# Altium footprint library myLib.PcbLib: 111 footprints (part 2 of 7)
Each footprint in its own frame and in the unit in brackets; x right, y up, seen from the top. Pads: shape width x height; smd on the part's side, far side on the other; paste and mask are expansions set on the pad; w line width, h text height; cw(c..) or ccw(c..) is an arc to the next point about the centre after c.
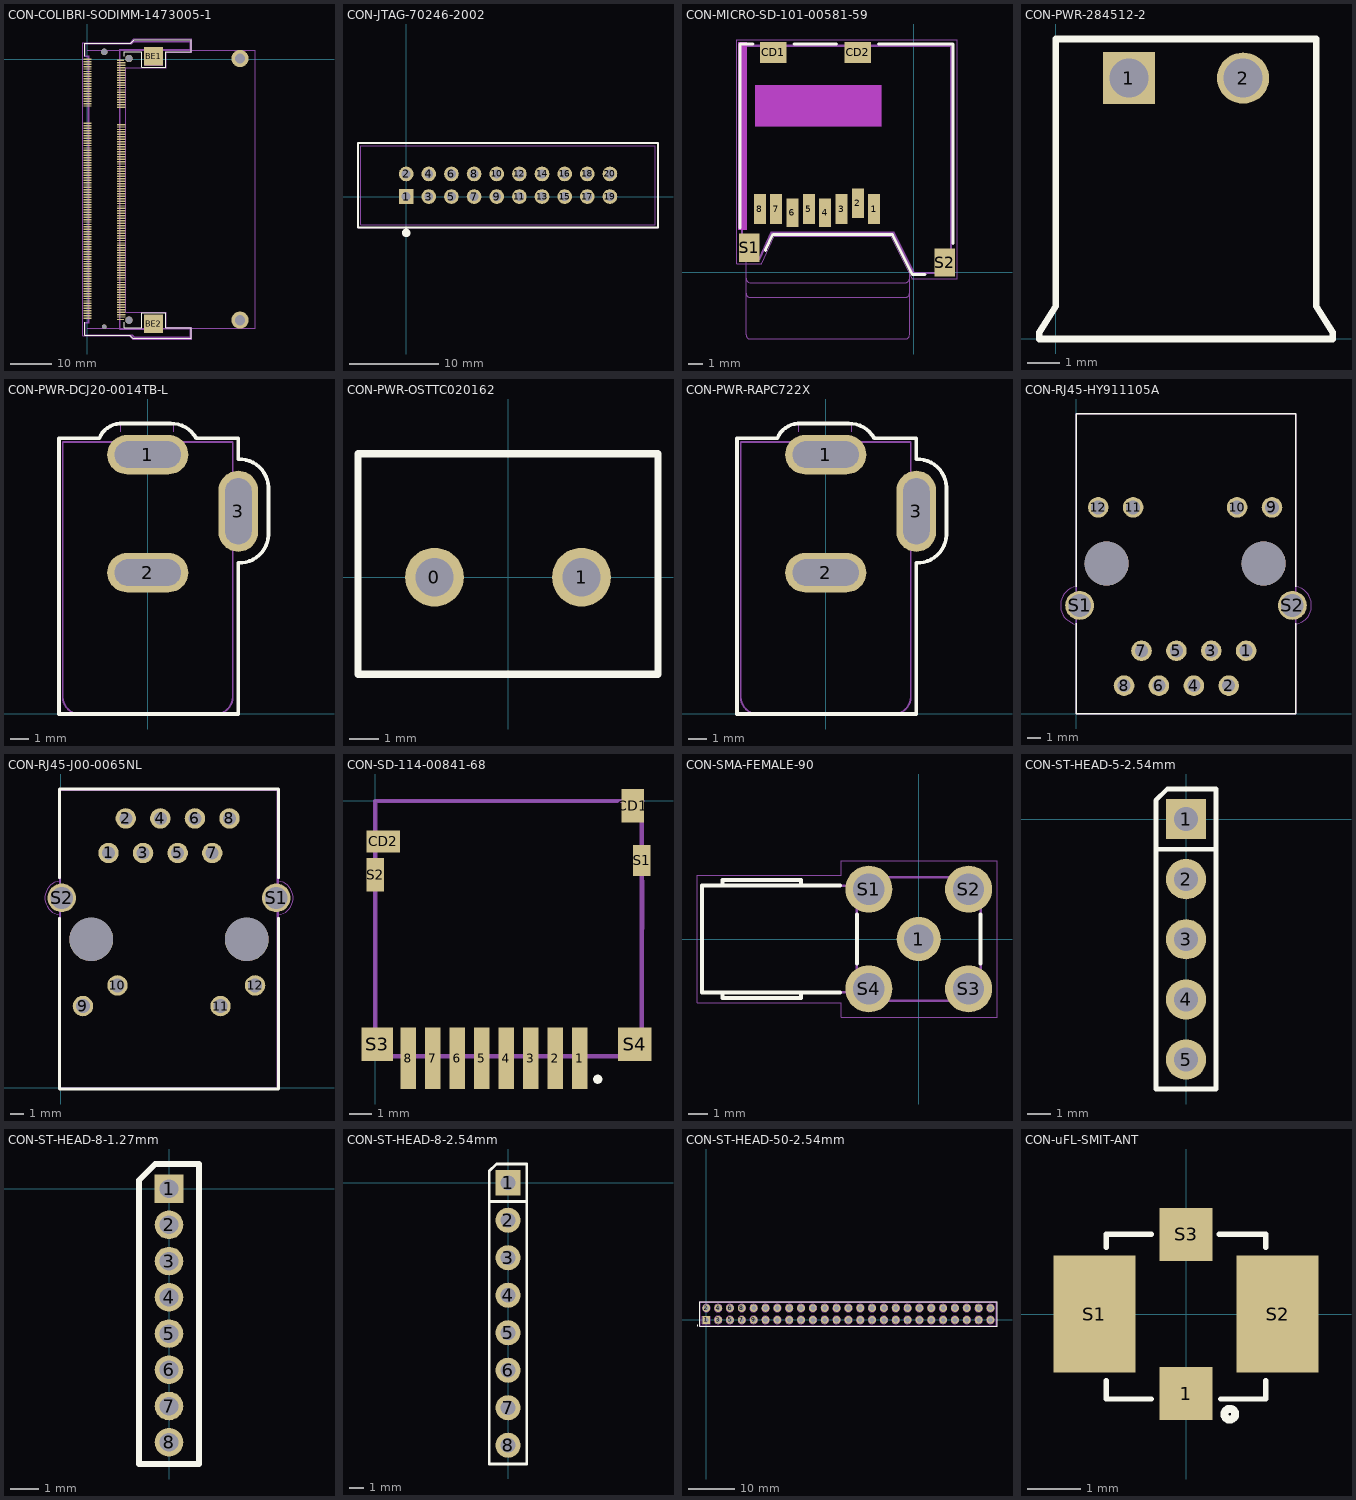
[diagram p1: the footprints below, top view; thin cyan lines are the x and y axes]

## CON-COLIBRI-SODIMM-1473005-1 [mm] "SODIMM Connector, 200 Pin (1473005-1)"
height 5.2
pads (208):
  rect 2x0.35 smd: 1(0,0) 3(0,-0.6) 4(8.2,-0.9) 5(0,-1.2) 6(8.2,-1.5) 7(0,-1.8) 8(8.2,-2.1) 9(0,-2.4) 10(8.2,-2.7) 11(0,-3) 12(8.2,-3.3) 13(0,-3.6) 14(8.2,-3.9) 15(0,-4.2) 16(8.2,-4.5) 17(0,-4.8) 18(8.2,-5.1) 19(0,-5.4) 20(8.2,-5.7) 21(0,-6) 22(8.2,-6.3) 23(0,-6.6) 24(8.2,-6.9) 25(0,-7.2) 26(8.2,-7.5) 27(0,-7.8) 28(8.2,-8.1) 29(0,-8.4) 30(8.2,-8.7) 31(0,-9) 32(8.2,-9.3) 33(0,-9.6) 34(8.2,-9.9) 35(0,-10.2) 36(8.2,-10.5) 37(0,-10.8) 38(8.2,-11.1) 39(0,-11.4) 40(8.2,-11.7) 41(0,-15.6) 42(8.2,-15.9) 43(0,-16.2) 44(8.2,-16.5) 45(0,-16.8) 46(8.2,-17.1) 47(0,-17.4) 48(8.2,-17.7) 49(0,-18) 50(8.2,-18.3) 51(0,-18.6) 52(8.2,-18.9) 53(0,-19.2) 54(8.2,-19.5) 55(0,-19.8) 56(8.2,-20.1) 57(0,-20.4) 58(8.2,-20.7) 59(0,-21) 60(8.2,-21.3) 61(0,-21.6) 62(8.2,-21.9) 63(0,-22.2) 64(8.2,-22.5) 65(0,-22.8) 66(8.2,-23.1) 67(0,-23.4) 68(8.2,-23.7) 69(0,-24) 70(8.2,-24.3) 71(0,-24.6) 72(8.2,-24.9) 73(0,-25.2) 74(8.2,-25.5) 75(0,-25.8) 76(8.2,-26.1) 77(0,-26.4) 78(8.2,-26.7) 79(0,-27) 80(8.2,-27.3) 81(0,-27.6) 82(8.2,-27.9) 83(0,-28.2) 84(8.2,-28.5) 85(0,-28.8) 86(8.2,-29.1) 87(0,-29.4) 88(8.2,-29.7) 89(0,-30) 90(8.2,-30.3) 91(0,-30.6) 92(8.2,-30.9) 93(0,-31.2) 94(8.2,-31.5) 95(0,-31.8) 96(8.2,-32.1) 97(0,-32.4) 98(8.2,-32.7) 99(0,-33) 100(8.2,-33.3) 101(0,-33.6) 102(8.2,-33.9) 103(0,-34.2) 104(8.2,-34.5) 105(0,-34.8) 106(8.2,-35.1) 107(0,-35.4) 108(8.2,-35.7) 109(0,-36) 110(8.2,-36.3) 111(0,-36.6) 112(8.2,-36.9) 113(0,-37.2) 114(8.2,-37.5) 115(0,-37.8) 116(8.2,-38.1) 117(0,-38.4) 118(8.2,-38.7) 119(0,-39) 120(8.2,-39.3) 121(0,-39.6) 122(8.2,-39.9) 123(0,-40.2) 124(8.2,-40.5) 125(0,-40.8) 126(8.2,-41.1) 127(0,-41.4) 128(8.2,-41.7) 129(0,-42) 130(8.2,-42.3) 131(0,-42.6) 132(8.2,-42.9) 133(0,-43.2) 134(8.2,-43.5) 135(0,-43.8) 136(8.2,-44.1) 137(0,-44.4) 138(8.2,-44.7) 139(0,-45) 140(8.2,-45.3) 141(0,-45.6) 142(8.2,-45.9) 143(0,-46.2) 144(8.2,-46.5) 145(0,-46.8) 146(8.2,-47.1) 147(0,-47.4) 148(8.2,-47.7) 149(0,-48) 150(8.2,-48.3) 151(0,-48.6) 152(8.2,-48.9) 153(0,-49.2) 154(8.2,-49.5) 155(0,-49.8) 156(8.2,-50.1) 157(0,-50.4) 158(8.2,-50.7) 159(0,-51) 160(8.2,-51.3) 161(0,-51.6) 162(8.2,-51.9) 163(0,-52.2) 164(8.2,-52.5) 165(0,-52.8) 166(8.2,-53.1) 167(0,-53.4) 168(8.2,-53.7) 169(0,-54) 170(8.2,-54.3) 171(0,-54.6) 172(8.2,-54.9) 173(0,-55.2) 174(8.2,-55.5) 175(0,-55.8) 176(8.2,-56.1) 177(0,-56.4) 178(8.2,-56.7) 179(0,-57) 180(8.2,-57.3) 181(0,-57.6) 182(8.2,-57.9) 183(0,-58.2) 184(8.2,-58.5) 185(0,-58.8) 186(8.2,-59.1) 187(0,-59.4) 188(8.2,-59.7) 189(0,-60) 190(8.2,-60.3) 191(0,-60.6) 192(8.2,-60.9) 193(0,-61.2) 194(8.2,-61.5) 195(0,-61.8) 196(8.2,-62.1) 197(0,-62.4) 198(8.2,-62.7) 199(0,-63)
  rect 1.7x0.35 smd: 2(8.05,-0.3) 200(8.05,-63.3)
  rect 4.6x4.5 smd: BE1(16.1,0.75) BE2(16.1,-64.35)
  round 1.1 hole 1.1 unplated: ""(4.1,-65.05)
  round 1.6 hole 1.6 unplated: ""(4.1,1.75)
  round 1.8 hole 1.8 unplated: ""(10.1,-63.45) ""(10.1,0.15)
  round 4.2 hole 2.5: ""(37.1,-63.45) ""(37.1,0.15)
Top Overlay:
  lines w0.2: -0.635,-63.962 -0.635,-67.1 7,-67.1 ; -0.635,0.715 -0.635,3.881 6.969,3.881 6.97,3.88 10.48,3.88 11.35,4.75 25.273,4.75 25.273,1.85 19.05,1.85 19.05,-1.951 13.2,-1.951 13.2,1.75 8.9,1.75 8.9,0.715 ; 6.95,-67.1 10.25,-67.1 11.05,-67.9 25.273,-67.9 25.273,-65.35 ; 8.9,-65.3 13.208,-65.3 13.208,-61.641 19.05,-61.641 19.05,-65.35 25.2,-65.35 ; 8.9,-65.282 8.9,-63.962
Drawing:
  lines w0.05: -1.141,-67.249 10.189,-67.249 10.983,-68.043 11.251,-68.043 25.413,-68.043 25.413,-65.211 19.191,-65.211 19.191,-61.502 9.374,-61.502 9.374,-2.1 19.2,-2.1 19.2,1.705 25.42,1.705 25.42,4.897 11.289,4.897 10.42,4.028 -1.141,4.028 -1.141,-67.249
3D:
  lines w0.001: -0.002,-65.45 40.798,-65.45 ; 0,2.15 40.8,2.15 40.8,-65.45 ; -0.635,-67.102 6.223,-67.102 10.795,-67.102 11.303,-67.61 25.146,-67.61 25.146,-65.451 18.288,-65.451 18.288,-62.276 13.97,-62.276 13.97,-65.451 8.001,-65.451 8.001,2.24 13.97,2.24 13.97,-1.443 18.288,-1.443 18.288,2.24 25.146,2.24 25.146,4.399 11.303,4.399 10.795,3.891 6.223,3.891 -0.635,3.891 -0.635,0.716 0.254,0.716 0.254,-63.962 -0.635,-63.962 -0.635,-67.102
Mechanical:
  lines w0.1: -0.508,-66.975 5.969,-66.975 10.922,-66.975 11.43,-67.483 25.019,-67.483 25.019,-65.578 18.161,-65.578 18.161,-62.403 14.097,-62.403 14.097,-65.705 7.874,-65.705 7.874,2.367 14.097,2.367 14.097,-1.189 18.161,-1.189 18.161,2.367 25.019,2.367 25.019,4.272 11.303,4.272 10.795,3.764 5.969,3.764 -0.508,3.764 -0.508,0.843 0.381,0.843 0.381,-64.054 -0.508,-64.054 -0.508,-66.975
3D body "20150202-230345-39902436.stp": height 3, standoff -0.48, extent 35.51,-65.28 38.69,-61.62
3D body "20150202-230345-39902436.stp": height 3, standoff -0.48, extent 35.51,-1.68 38.69,1.98
3D body "c-1473005-1-j1-3d.stp": height 5.22, standoff -0.68, extent -0.9,-67.4 25.15,4.1

## CON-JTAG-70246-2002 [mm] "Header shrouded, 2x10 Pins, 2.54 mm pitch"
height 8.51
pads (20):
  rect 1.65x1.65 hole 1: 1(0,0)
  round 1.65 hole 1: 2(0,2.54) 3(2.54,0) 4(2.54,2.54) 5(5.08,0) 6(5.08,2.54) 7(7.62,0) 8(7.62,2.54) 9(10.16,0) 10(10.16,2.54) 11(12.7,0) 12(12.7,2.54) 13(15.24,0) 14(15.24,2.54) 15(17.78,0) 16(17.78,2.54) 17(20.32,0) 18(20.32,2.54) 19(22.86,0) 20(22.86,2.54)
Top Overlay:
  circle w0.5: c0,-4.075 r0.224
  lines w0.2: -5.4,-3.475 -5.4,6 28.25,6 28.25,-3.475 -5.4,-3.475
Drawing:
  lines w0.05: -5.4,-3.475 28.25,-3.475 28.25,6 -5.4,6 -5.4,-3.475
3D:
  lines w0.01: -5.08,-3.175 27.94,-3.175 27.94,5.715 -5.08,5.715 -5.08,-3.175
Mechanical:
  lines w0.1: -5.08,-3.175 27.94,-3.175 27.94,5.715 -5.08,5.715 -5.08,-3.175
3D body "702462002.stp": height 9.29, standoff -3.41, extent -5.08,-3.175 27.94,5.715

## CON-MICRO-SD-101-00581-59 [mm] "MicroSD Holder top-loading type (Ampenol 101-00581-59)"
height 1.8
pads (12):
  rect 0.8x2 smd: 1(-2.67,4.25) 2(-3.77,4.65) 3(-4.87,4.25) 5(-7.07,4.25) 7(-9.27,4.25) 8(-10.37,4.25)
  rect 0.8x1.9 smd: 4(-5.97,4) 6(-8.17,4)
  rect 1.8x1.4 smd: CD1(-9.47,14.8) CD2(-3.77,14.8)
  rect 1.4x1.9 smd: S1(-11.08,1.65) S2(2.08,0.65)
Top Overlay:
  lines w0.2: -11.697,2.96 -11.697,15.366 -10.839,15.366 ; -9.998,1.461 -9.496,2.549 -1.448,2.549 -0.105,-0.167 0.753,-0.167 ; -8.055,15.366 -5.197,15.366 ; -2.39,15.366 2.636,15.366 2.636,1.928
Drawing:
  lines w0.05: -11.916,0.564 -11.916,15.636 2.916,15.636 2.916,-0.436 -0.135,-0.436 -1.54,2.407 -9.403,2.407 -10.253,0.564 -11.916,0.564
Drawing keep-out:
  rectangle: -11.83,2.854 -11.23,15.5
  rectangle: -10.68,9.8 -2.18,12.6
3D:
  lines w0.001: -11.29,-1.425 ccw(c-11.015,-1.425) -11.015,-1.7 -0.565,-1.7 ccw(c-0.565,-1.425) -0.29,-1.425 ; -11.29,-0.428 -11.29,-4.225 ccw(c-11.015,-4.225) -11.015,-4.5 -0.565,-4.5 ccw(c-0.565,-4.225) -0.29,-4.225 -0.29,-0.425 ; -11.29,0.95 -11.29,-0.425 ccw(c-11.015,-0.425) -11.015,-0.7 -0.565,-0.7 ccw(c-0.565,-0.425) -0.29,-0.425 ; -0.29,0.586 -0.29,-0.425 ; -11.53,0.95 -10.424,0.95 -9.608,2.721 -1.346,2.721 0,0 2.47,0 2.47,15.2 -11.53,15.2 -11.53,0.95
Mechanical:
  lines w0.1: -10.38,0.876 -11.596,0.876 -11.596,15.266 2.529,15.266 ; -10.379,0.878 -9.563,2.649 ; -9.56,2.649 -1.384,2.649 ; -1.383,2.649 -0.041,-0.066 ; -0.038,-0.068 2.538,-0.068 ; 2.535,-0.045 2.535,15.265 2.529,15.265 ; 2.529,15.265 2.529,15.266
3D body: height 1.72, standoff 0, extent -11.53,0 2.47,15.2

## CON-PWR-284512-2 [mm] "Power Connector ,3.5mm (TYCO S284512-2)"
height 7.3
pads (2):
  rect 1.6x1.6 hole 1.2: 1(2.25,8)
  oval 1.6x1.56 hole 1.2: 2(5.75,8)
Top Overlay:
  lines w0.2: -0.5,0 -0.5,0.2 0,1 0,9.2 8,9.2 8,1 8.5,0.2 8.5,0 -0.499,0
Drawing:
  lines w0.05: -0.5,0 -0.5,0.2 0,1 0,9.2 8,9.2 8,1 8.5,0.2 8.5,0 -0.5,0
3D:
  lines w0.001: -0.5,0 -0.5,0.2 0,1 0,9.2 8,9.2 8,1 8.5,0.2 8.5,0 -0.5,0
Mechanical:
  lines w0.1: -0.5,0 -0.5,0.2 0,1 0,9.2 8,9.2 8,1 8.5,0.2 8.5,0 -0.5,0
3D body "c-284512-2-e1-3d.stp": height 7.27, standoff -3.38, extent -0.5,0 8.5,9.2

## CON-PWR-DCJ20-0014TB-L [mm] "Connector, 2mm (Dia), 6.4mm(Dia), Round Power Socket (DCJ20-0014TB-L)"
height 10.7
pads (3):
  oval 4.3x2.1 hole 1.4 slot 3.5 at 0 deg: 1(0,13.74) 2(0,7.49)
  oval 2.1x4.3 hole 1.4 slot 3.5 at 90 deg: 3(4.8,10.74)
Top Overlay:
  lines w0.2: 1.196,15.393 -1.3,15.393 ccw(c-1.385,14.115) -2.569,14.6 -4.7,14.6 -4.7,0 4.79,0 4.79,8 ccw(c4.843,9.553) 6.396,9.499 6.396,11.996 ccw(c4.841,11.945) 4.79,13.5 4.79,14.59 4.78,14.6 2.569,14.6 ccw(c1.234,13.866) 1.2,15.388
Drawing:
  lines w0.05: -1.332,15.393 1.164,15.393 ; -1.332,15.394 ccw(c-1.384,14.115) -2.568,14.6 -4.7,14.6 -4.7,0 4.8,0 4.8,8 ccw(c4.843,9.553) 6.396,9.499 6.396,11.996 ccw(c4.841,11.945) 4.8,13.5 4.8,14.6 2.568,14.6 ; 1.169,15.388 cw(c1.203,13.866) 2.537,14.6
3D:
  lines w0.001: -1.432,14.95 -1.432,15.4 ; -1.4,13.95 -1.4,14.4 -4.5,14.4 -4.5,0.9 ccw(c-3.6,0.9) -3.6,0 3.6,0 ; 1.368,14.95 1.368,15.4 ; 1.4,13.95 1.4,14.4 4.5,14.4 4.5,0.9 cw(c3.6,0.9) 3.6,0
Mechanical:
  lines w0.1: -4.5,0.9 ccw(c-3.6,0.9) -3.6,0 3.6,0 ccw(c3.6,0.9) 4.5,0.9 4.5,14.4 -4.5,14.4 -4.5,0.9
3D body: height 10.7, standoff 0, extent -4.5,0 4.5,14.4
3D body: height 4, standoff -3.7, extent 4.5,9.45 4.7,11.85
3D body: height 4, standoff -3.7, extent -1.2,7.55 1.2,7.75
3D body: height 4, standoff -3.7, extent -1.4,13.55 1.4,13.75
3D body: height 9.59, standoff 3.21, extent -3.2,0 3.175,2
3D body: height 7.4, standoff 5.4, extent -1,0 0.992,2

## CON-PWR-OSTTC020162 [mm] "Terminal Connector, TH, 5mm Pitch (OnShore OSTTC020162)"
height 7
pads (2):
  round 2 hole 1.3: 0(-2.5,0) 1(2.5,0)
Top Overlay:
  lines w0.254: -5.1,-3.3 5.1,-3.3 5.1,0 5.1,4.2 -5.1,4.2 -5.1,0 -5.1,-3.3
Drawing:
  lines w0.1: -5.1,-3.3 5.1,-3.3 5.1,4.2 -5.1,4.2 -5.1,-3.3
Mechanical:
  lines w0.2: -5.1,-3.3 5.1,-3.3 5.1,4.2 -5.1,4.2 -5.1,-3.3
3D body "terminal_blocks_a-tb500-t302.stp": height 10, standoff -4, extent -5.55,-3.4 5.55,4.2

## CON-PWR-RAPC722X [mm] "Connector, 2.1mm (Dia), 5.5mm(Dia), Round Power Socket (RAPC722X)"
height 10.7
pads (3):
  oval 4.3x2.1 hole 1.4 slot 3.5 at 0 deg: 1(0,13.74) 2(0,7.49)
  oval 2.1x4.3 hole 1.4 slot 3.5 at 90 deg: 3(4.8,10.74)
Top Overlay:
  lines w0.2: 1.196,15.393 -1.3,15.393 ccw(c-1.385,14.115) -2.569,14.6 -4.7,14.6 -4.7,0 4.79,0 4.79,8 ccw(c4.843,9.553) 6.396,9.499 6.396,11.996 ccw(c4.841,11.945) 4.79,13.5 4.79,14.59 4.78,14.6 2.569,14.6 ccw(c1.234,13.866) 1.2,15.388
Drawing:
  lines w0.05: -1.332,15.393 1.164,15.393 ; -1.332,15.394 ccw(c-1.384,14.115) -2.568,14.6 -4.7,14.6 -4.7,0 4.8,0 4.8,8 ccw(c4.843,9.553) 6.396,9.499 6.396,11.996 ccw(c4.841,11.945) 4.8,13.5 4.8,14.6 2.568,14.6 ; 1.169,15.388 cw(c1.203,13.866) 2.537,14.6
3D:
  lines w0.001: -1.432,14.95 -1.432,15.4 ; -1.4,13.95 -1.4,14.4 -4.5,14.4 -4.5,0.9 ccw(c-3.6,0.9) -3.6,0 3.6,0 ; 1.368,14.95 1.368,15.4 ; 1.4,13.95 1.4,14.4 4.5,14.4 4.5,0.9 cw(c3.6,0.9) 3.6,0
Mechanical:
  lines w0.1: -4.5,0.9 ccw(c-3.6,0.9) -3.6,0 3.6,0 ccw(c3.6,0.9) 4.5,0.9 4.5,14.4 -4.5,14.4 -4.5,0.9
3D body: height 10.7, standoff 0, extent -4.5,0 4.5,14.4
3D body: height 4, standoff -3.7, extent 4.5,9.45 4.7,11.85
3D body: height 4, standoff -3.7, extent -1.2,7.55 1.2,7.75
3D body: height 4, standoff -3.7, extent -1.4,13.55 1.4,13.75
3D body: height 9.59, standoff 3.21, extent -3.2,0 3.175,2
3D body: height 7.4, standoff 5.4, extent -1,0 0.992,2

## CON-RJ45-HY911105A [mm] "RJ45 Connector with MagJack (HY911105A)"
height 14.22
pads (16):
  round 1.5 hole 0.95: 1(12.38,4.604) 2(11.11,2.064) 3(9.84,4.604) 4(8.57,2.064) 5(7.3,4.604) 6(6.03,2.064) 7(4.76,4.604) 8(3.49,2.064)
  round 1.5 hole 1.02: 9(14.26,15.044) 10(11.72,15.044) 11(4.15,15.044) 12(1.61,15.044)
  round 2.1 hole 1.65: S1(0.255,7.904) S2(15.745,7.904)
  round 3.2 hole 3.2: ""(2.22,10.954) ""(13.65,10.954)
Top Overlay:
  lines w0.1: 0,6.604 0,0 16,0 16,6.604 ; 0,9.271 0,21.84 16,21.84 16,9.271
Drawing:
  lines w0.05: 0,6.537 0,0 16,0 ; 0.002,6.537 cw(c0.255,7.904) 0,9.271 0,21.84 16,21.84 16,9.271 cw(c15.745,7.904) 16.002,6.538 ; 16.002,0 16.002,6.537
Mechanical:
  lines w0.1: 0,0 16,0 16,21.84 0,21.84 0,0
3D body "7499010211A.stp": height 13.32, standoff -3.23, extent 0.061,-0.028 15.941,21.812

## CON-RJ45-J00-0065NL [mm] "RJ45 Connector with MagJack (PowerJack J00-0065NL)"
height 14.22
pads (16):
  round 1.5 hole 0.95: 1(3.495,17.24) 2(4.765,19.78) 3(6.035,17.24) 4(7.305,19.78) 5(8.575,17.24) 6(9.845,19.78) 7(11.115,17.24) 8(12.385,19.78)
  round 1.5 hole 1.02: 9(1.615,5.99) 10(4.155,7.51) 11(11.725,5.99) 12(14.265,7.51)
  round 2.1 hole 1.63: S1(15.815,13.94) S2(0.065,13.94)
  round 3.2 hole 3.2: ""(2.225,10.89) ""(13.655,10.89)
Top Overlay:
  lines w0.2: -0.102,12.446 -0.102,-0.102 15.983,-0.102 15.983,12.446 ; -0.102,15.418 -0.102,21.942 15.983,21.942 15.983,15.418
Drawing:
  region: 5.81,17.065 5.81,17.415 6.26,17.415 6.26,17.065
  lines w0.05: -0.102,-0.102 15.981,-0.102 15.981,12.701 ccw(c15.816,13.94) 15.981,15.179 15.981,21.941 -0.102,21.941 -0.102,15.179 ccw(c0.064,13.94) -0.102,12.701 -0.102,-0.102
3D:
  lines w0.001: 0,0 0,21.84 15.88,21.84 15.88,0 0,0
Mechanical:
  lines w0.1: -0.102,-0.102 -0.102,21.941 15.983,21.941 15.983,-0.102 -0.102,-0.102
3D body "7499010211A.stp": height 13.32, standoff -3.23, extent 0,0 15.88,21.84

## CON-SD-114-00841-68 [mm] "MICRO SD Card Connector (Amphenol 114-00841-68)"
pads (14):
  rect 0.7x2.75 smd: 1(9.175,-11.538) 6(3.675,-11.538)
  rect 0.701x2.753 smd: 2(8.075,-11.538) 8(1.475,-11.538)
  rect 0.701x2.752 smd: 3(6.975,-11.538) 4(5.875,-11.538) 5(4.775,-11.538) 7(2.575,-11.538)
  rect 1.001x1.502 smd: CD1(11.55,-0.213)
  rect 1.5x1 smd: CD2(0.355,-1.813)
  rect 0.8x1.401 smd: S1(11.95,-2.663)
  rect 0.801x1.501 smd: S2(0,-3.313)
  rect 1.4x1.501 smd: S3(0.088,-10.913)
  rect 1.502x1.502 smd: S4(11.625,-10.913)
Top Overlay:
  circle w0.2: c9.975,-12.475 r0.106
Drawing:
  lines w0.2: 0,-11.466 0,0 ; 0,-11.451 11.951,-11.451 ; 0,-9.771 0,-5.735 ; 0,-5.729 0,-4.388 ; 10.631,0 0,0 ; 11.957,-11.457 11.957,0 ; 11.96,-9.841 11.96,-5.73 ; 11.963,-5.731 11.963,-3.583 ; 11.963,0 0,0

## CON-SMA-FEMALE-90 [mm] "PCB.SMAFRA.HT, SMA Connector Female"
pads (5):
  round 2.25 hole 1.5: 1(0,0)
  round 2.4 hole 1.6: S1(-2.54,2.54) S2(2.54,2.54) S3(2.54,-2.54) S4(-2.54,-2.54)
Top Overlay:
  lines w0.2: -10,-2.75 -10,-3 -6,-3 -6,-2.75 ; -10,2.75 -10,3 -6,3 -6,2.75 ; -4,-2.725 -11.05,-2.725 -11.05,2.725 -4,2.725 ; -3.15,-1.25 -3.15,1.25 ; 3.15,-1.25 3.15,1.25
Drawing:
  lines w0.05: -11.3,-3.25 -11.3,3.25 -3.95,3.25 -3.95,3.99 3.99,3.99 3.99,-3.99 -3.95,-3.99 -3.95,-3.25 -11.3,-3.25
  lines w0.127: -10.002,-2.75 -10.002,-3 -6.002,-3 -6.002,-2.75 ; -10,2.75 -10,3 -6,3 -6,2.75 ; -3.238,-2.725 -11.05,-2.725 -11.05,2.725 -3.238,2.725 ; -3.15,-3.15 -3.15,3.15 3.15,3.15 3.15,-3.15 -3.15,-3.15
3D body "c-5-1814400-1-d-3d.stp": height 10.78, standoff -2.75, extent -11.087,-3.159 3.113,3.168

## CON-ST-HEAD-5-2.54mm [mm] "1x5 Pin, 2.54mm"
pads (5):
  rect 1.7x1.7 hole 1: 1(0,0)
  round 1.7 hole 1: 2(0,-2.54) 3(0,-5.08) 4(0,-7.62) 5(0,-10.16)
Top Overlay:
  lines w0.2: -1.27,-1.27 1.27,-1.27 ; -1.27,-11.405 -1.27,0.787 -0.787,1.27 1.27,1.27 1.27,-11.405 -1.27,-11.405

## CON-ST-HEAD-8-1.27mm [mm] "1x8 Pin, 1.27mm"
pads (8):
  rect 1x1 hole 0.65: 1(0,0)
  round 1 hole 0.65: 2(0,-1.27) 3(0,-2.54) 4(0,-3.81) 5(0,-5.08) 6(0,-6.35) 7(0,-7.62) 8(0,-8.89)
Top Overlay:
  lines w0.2: -1.05,-9.652 -1.05,0.296 -0.483,0.864 1.05,0.864 1.05,-9.652 -1.05,-9.652

## CON-ST-HEAD-8-2.54mm [mm] "1x8 Pin, 2.54mm"
pads (8):
  rect 1.7x1.7 hole 1: 1(0,0)
  round 1.7 hole 1: 2(0,-2.54) 3(0,-5.08) 4(0,-7.62) 5(0,-10.16) 6(0,-12.7) 7(0,-15.24) 8(0,-17.78)
Top Overlay:
  lines w0.2: -1.27,-1.27 1.27,-1.27 ; -1.27,-19.05 1.27,-19.05 1.27,1.27 -0.787,1.27 -1.27,0.787 -1.27,-19.05

## CON-ST-HEAD-50-2.54mm [mm] "Header, 2x25 Pins, 2.54 mm pitch"
height 8.51
pads (50):
  rect 1.65x1.65 hole 1.016: 1(0,0)
  round 1.65 hole 1.016: 2(0,2.54) 3(2.54,0) 4(2.54,2.54) 5(5.08,0) 6(5.08,2.54) 7(7.62,0) 8(7.62,2.54) 9(10.16,0) 10(10.16,2.54) 11(12.7,0) 12(12.7,2.54) 13(15.24,0) 14(15.24,2.54) 15(17.78,0) 16(17.78,2.54) 17(20.32,0) 18(20.32,2.54) 19(22.86,0) 20(22.86,2.54) 21(25.4,0) 22(25.4,2.54) 23(27.94,0) 24(27.94,2.54) 25(30.48,0) 26(30.48,2.54) 27(33.02,0) 28(33.02,2.54) 29(35.56,0) 30(35.56,2.54) 31(38.1,0) 32(38.1,2.54) 33(40.64,0) 34(40.64,2.54) 35(43.18,0) 36(43.18,2.54) 37(45.72,0) 38(45.72,2.54) 39(48.26,0) 40(48.26,2.54) 41(50.8,0) 42(50.8,2.54) 43(53.34,0) 44(53.34,2.54) 45(55.88,0) 46(55.88,2.54) 47(58.42,0) 48(58.42,2.54) 49(60.96,0) 50(60.96,2.54)
Top Overlay:
  circle w0.25: c-1.9,-1.2 r0.1
  lines w0.2: -1.395,-1.395 62.355,-1.395 62.355,3.935 -1.395,3.935 -1.395,-1.395
Drawing:
  circle w0.05: c0,0 r0.35
  lines w0.05: -0.5,0 0.5,0 ; 0,-0.5 0,0.5 ; -1.37,-1.369 -1.37,3.91 62.33,3.91 62.33,-1.369 -1.37,-1.369
3D:
  lines w0.001: -1.27,-1.27 62.23,-1.27 62.23,3.81 -1.27,3.81 -1.27,-1.27
Mechanical:
  circle w0.1: c60.96,2.54 r0.825
  circle w0.1: c60.96,0 r0.825
  circle w0.1: c58.42,2.54 r0.825
  circle w0.1: c58.42,0 r0.825
  circle w0.1: c55.88,2.54 r0.825
  circle w0.1: c55.88,0 r0.825
  circle w0.1: c53.34,2.54 r0.825
  circle w0.1: c53.34,0 r0.825
  circle w0.1: c50.8,2.54 r0.825
  circle w0.1: c50.8,0 r0.825
  circle w0.1: c0,2.54 r0.825
  circle w0.1: c2.54,0 r0.825
  circle w0.1: c2.54,2.54 r0.825
  circle w0.1: c5.08,0 r0.825
  circle w0.1: c5.08,2.54 r0.825
  circle w0.1: c7.62,0 r0.825
  circle w0.1: c7.62,2.54 r0.825
  circle w0.1: c10.16,0 r0.825
  circle w0.1: c10.16,2.54 r0.825
  circle w0.1: c12.7,0 r0.825
  circle w0.1: c12.7,2.54 r0.825
  circle w0.1: c15.24,0 r0.825
  circle w0.1: c15.24,2.54 r0.825
  circle w0.1: c17.78,0 r0.825
  circle w0.1: c17.78,2.54 r0.825
  circle w0.1: c20.32,0 r0.825
  circle w0.1: c20.32,2.54 r0.825
  circle w0.1: c22.86,0 r0.825
  circle w0.1: c22.86,2.54 r0.825
  circle w0.1: c25.4,0 r0.825
  circle w0.1: c25.4,2.54 r0.825
  circle w0.1: c27.94,0 r0.825
  circle w0.1: c27.94,2.54 r0.825
  circle w0.1: c30.48,0 r0.825
  circle w0.1: c30.48,2.54 r0.825
  circle w0.1: c33.02,0 r0.825
  circle w0.1: c33.02,2.54 r0.825
  circle w0.1: c35.56,0 r0.825
  circle w0.1: c35.56,2.54 r0.825
  circle w0.1: c38.1,0 r0.825
  circle w0.1: c38.1,2.54 r0.825
  circle w0.1: c40.64,0 r0.825
  circle w0.1: c40.64,2.54 r0.825
  circle w0.1: c43.18,0 r0.825
  circle w0.1: c43.18,2.54 r0.825
  circle w0.1: c45.72,0 r0.825
  circle w0.1: c45.72,2.54 r0.825
  circle w0.1: c48.26,0 r0.825
  circle w0.1: c48.26,2.54 r0.825
  lines w0.1: -1.37,-1.369 62.33,-1.369 62.33,3.91 -1.37,3.91 -1.37,-1.369 ; -0.825,-0.825 -0.825,0.825 0.825,0.825 0.825,-0.825 -0.825,-0.825
3D body "Samtec-TSW-125-07-G-D.step": height 8.38, standoff -2.54, extent -1.27,-1.27 62.23,3.81

## CON-uFL-SMIT-ANT [mm] "Adafruit Accessories, uFL SMIT, Antenna Connector"
pads (4):
  rect 1x1 smd: 1(0,-1.5) S3(0,1.5)
  rect 1.55x2.2 smd: S1(-1.725,0) S2(1.725,0)
Top Overlay:
  circle w0.15: c0.824,-1.887 r0.1
  lines w0.1: -1.5,-1.254 -1.5,-1.6 -0.65,-1.6 ; -1.5,1.252 -1.5,1.5 -0.654,1.5 ; 0.624,1.5 1.5,1.5 1.5,1.251 ; 0.654,-1.6 1.5,-1.6 1.5,-1.252
3D body "u.Fl Antenna Connector - 523-A-1JB.STEP": height 1.25, standoff 0, extent -1.5,-1.6 1.5,1.5